# EAGLE library part LCD (library kxnStandard_frame_mutilsensor)
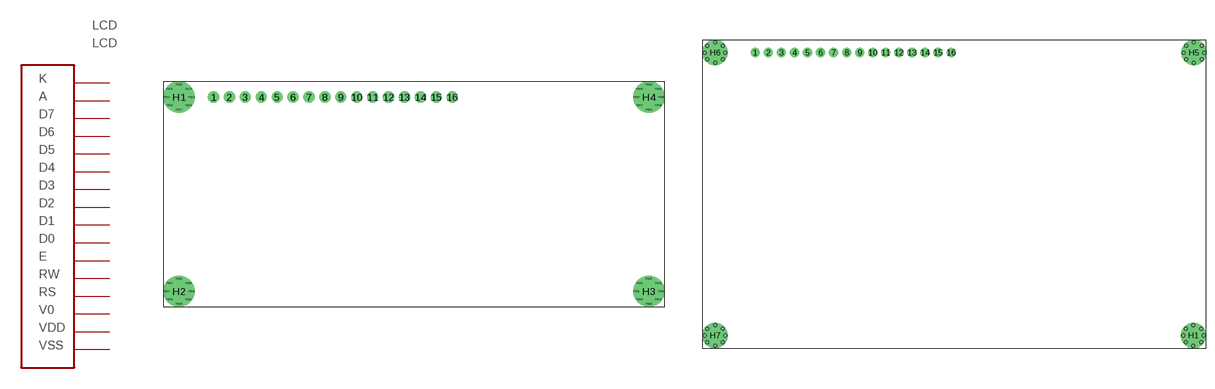
[diagram p0: symbol with the pads of LCD16X02; footprints LCD16X02, LCD20X04]

Designator prefix LCD

## LCDLCD16X02 (HEIGHT: 37.057; WIDTH: 81.057)  [LCD16X02]
1  1
2  2
3  3
4  4
5  5
6  6
7  7
8  8
9  9
10  10
11  11
12  12
13  13
14  14
15  15
16  16

## LCD_LCD2004 (HEIGHT: 61.057; WIDTH: 99.157)  [LCD20X04]
Pads as for LCD16X02

## LCD_2004_2 (HEIGHT: 31; WIDTH: 50)  [LCD_20X04_2]
Pads as for LCD16X02

## LCD_1602_2 (HEIGHT: 82.00; WIDTH: 38.00)  [LCD_16X02_2]
Pads as for LCD16X02

## Footprint LCD16X02 (pad centres in mm)
drill 1.2 pad 1.8: 1 8,-2.5; 2 10.54,-2.5; 3 13.08,-2.5; 4 15.62,-2.5; 5 18.16,-2.5; 6 20.7,-2.5; 7 23.24,-2.5; 8 25.78,-2.5; 9 28.32,-2.5; 10 30.86,-2.5; 11 33.4,-2.5; 12 35.94,-2.5; 13 38.48,-2.5; 14 41.02,-2.5; 15 43.56,-2.5; 16 46.1,-2.5
drill 3 pad 5: H1 2.5,-2.5; H2 2.5,-33.5; H3 77.5,-33.5; H4 77.5,-2.5
drill 0.5 pad 0.8: P$17 2.5,-4.5; P$18 4.5,-2.5; P$19 0.5,-2.5; P$20 2.5,-0.5; P$21 1,-1.2; P$22 4,-1.2; P$23 1,-3.8; P$24 4,-3.8; P$25 2.5,-31.5; P$26 2.5,-35.5; P$27 0.5,-33.5; P$28 4.5,-33.5; P$29 77.5,-31.5; P$30 77.5,-35.5; P$31 75.5,-33.5; P$32 79.5,-33.5; P$33 77.5,-0.5; P$34 77.5,-4.5; P$35 75.5,-2.5; P$36 79.5,-2.5; P$37 1,-32.2; P$38 4,-32.2; P$39 4,-34.8; P$40 1,-34.8; P$41 76,-32.2; P$42 79,-32.2; P$43 76,-34.8; P$44 79,-34.8; P$45 76,-1.2; P$46 79,-1.2; P$47 76,-3.8; P$48 79,-3.8

## Footprint LCD20X04 (pad centres in mm)
drill 1.2 pad 1.8: 1 -38.7,27.5; 2 -36.16,27.5; 3 -33.62,27.5; 4 -31.08,27.5; 5 -28.54,27.5; 6 -26,27.5; 7 -23.46,27.5; 8 -20.92,27.5; 9 -18.38,27.5; 10 -15.84,27.5; 11 -13.3,27.5; 12 -10.76,27.5; 13 -8.22,27.5; 14 -5.68,27.5; 15 -3.14,27.5; 16 -0.6,27.5
drill 3 pad 5: H1 46.5,-27.5; H5 46.6,27.5; H6 -46.5,27.5; H7 -46.5,-27.5
hole 0.6 at 46.5,-25.5
hole 0.6 at 45,-26.2
hole 0.6 at 44.5,-27.5
hole 0.6 at 45,-28.8
hole 0.6 at 46.5,-29.5
hole 0.6 at 48,-28.8
hole 0.6 at 48.5,-27.5
hole 0.6 at 48,-26.2
hole 0.6 at 46.6,29.5
hole 0.6 at 45.1,28.8
hole 0.6 at 44.6,27.5
hole 0.6 at 45.1,26.2
hole 0.6 at 46.6,25.5
hole 0.6 at 48.1,26.2
hole 0.6 at 48.6,27.5
hole 0.6 at 48.1,28.8
hole 0.6 at -46.5,29.5
hole 0.6 at -48,28.8
hole 0.6 at -48.5,27.5
hole 0.6 at -48,26.2
hole 0.6 at -46.5,25.5
hole 0.6 at -45,26.2
hole 0.6 at -44.5,27.5
hole 0.6 at -45,28.8
hole 0.6 at -46.5,-25.5
hole 0.6 at -48,-26.2
hole 0.6 at -48.5,-27.5
hole 0.6 at -48,-28.8
hole 0.6 at -46.5,-29.5
hole 0.6 at -45,-28.8
hole 0.6 at -44.5,-27.5
hole 0.6 at -45,-26.2

## Footprint LCD_20X04_2 (pad centres in mm)
31x50mm
drill 1.2 pad 1.8: 1 -38.7,27.5; 2 -36.16,27.5; 3 -33.62,27.5; 4 -31.08,27.5; 5 -28.54,27.5; 6 -26,27.5; 7 -23.46,27.5; 8 -20.92,27.5; 9 -18.38,27.5; 10 -15.84,27.5; 11 -13.3,27.5; 12 -10.76,27.5; 13 -8.22,27.5; 14 -5.68,27.5; 15 -3.14,27.5; 16 -0.6,27.5
hole 3.2 at 46.5,27.5
hole 3.2 at -46.5,27.5
hole 3.2 at 46.5,-27.5
hole 3.2 at -46.5,-27.5

## Footprint LCD_16X02_2 (pad centres in mm)
82x38mm
drill 1.2 pad 1.8: 1 -32.3,15.5; 2 -29.46,15.5; 3 -26.92,15.5; 4 -24.38,15.5; 5 -21.84,15.5; 6 -19.3,15.5; 7 -16.76,15.5; 8 -14.22,15.5; 9 -11.68,15.5; 10 -9.14,15.5; 11 -6.6,15.5; 12 -4.06,15.5; 13 -1.52,15.5; 14 1.02,15.5; 15 3.56,15.5; 16 6.4,15.5
hole 3.2 at 37.5,-15.5
hole 3.2 at -37.5,-15.5
hole 3.2 at 37.5,15.5
hole 3.2 at -37.5,15.5